# EAGLE library part FH19SC-32S-0.5SH_09_ (library FH19SC-32S-0.5SH_09_)
FFC & FPC Connectors 32P SMT HORIZONTAL .5MM PITCH Source: Datasheet <https://www.hirose.com/en/product/document?clcode=CL0580-0514-7-09&productname=FH19SC-32S-0.5SH(09)&series=FH19C__FH19SC&documenttype=2DDrawing&lang=en&documentid=0000990627>
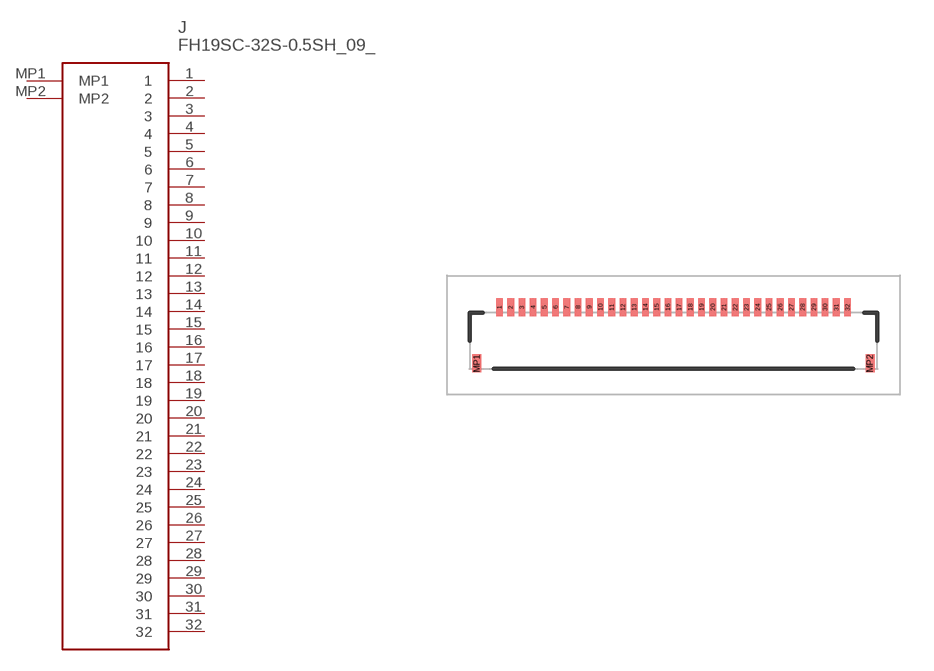
[diagram p0: symbol with the pads of FH19SC32S05SH09; footprint FH19SC32S05SH09]

Designator prefix J

## FH19SC-32S-0.5SH_09_ (Description: FFC & FPC Connectors 32P SMT HORIZONTAL .5MM PITCH; Height: 1.6mm; Manufacturer_Name: Hirose; Manufacturer_Part_Number: FH19SC-32S-0.5SH(09); Mouser_Part_Number: 798-FH19SC32S05SH09; Mouser_Price-Stock: https://www.mouser.co.uk/ProductDetail/Hirose-Connector/FH19SC-32S-0.5SH09?qs=vnk2wBG9e14Nd84%2F2PB3lQ%3D%3D)  [FH19SC32S05SH09]
1  1
2  2
3  3
4  4
5  5
6  6
7  7
8  8
9  9
10  10
11  11
12  12
13  13
14  14
15  15
16  16
17  17
18  18
19  19
20  20
21  21
22  22
23  23
24  24
25  25
26  26
27  27
28  28
29  29
30  30
31  31
32  32
MP1  MP1
MP2  MP2

## Footprint FH19SC32S05SH09 (pad centres in mm)
FH19SC-32S-0.5SH(09)-1
smd 0.3 x 0.8: 1 -7.75,1.375; 2 -7.25,1.375; 3 -6.75,1.375; 4 -6.25,1.375; 5 -5.75,1.375; 6 -5.25,1.375; 7 -4.75,1.375; 8 -4.25,1.375; 9 -3.75,1.375; 10 -3.25,1.375; 11 -2.75,1.375; 12 -2.25,1.375; 13 -1.75,1.375; 14 -1.25,1.375; 15 -0.75,1.375; 16 -0.25,1.375; 17 0.25,1.375; 18 0.75,1.375; 19 1.25,1.375; 20 1.75,1.375; 21 2.25,1.375; 22 2.75,1.375; 23 3.25,1.375; 24 3.75,1.375; 25 4.25,1.375; 26 4.75,1.375; 27 5.25,1.375; 28 5.75,1.375; 29 6.25,1.375; 30 6.75,1.375; 31 7.25,1.375; 32 7.75,1.375
smd 0.4 x 0.8: MP1 -8.75,-1.125; MP2 8.75,-1.125